# Altium footprint library MAX4932ETD&plus_T.PcbLib: 3 footprints
Each footprint in its own frame and in the unit in brackets; x right, y up, seen from the top. Pads: shape width x height; smd on the part's side, far side on the other; paste and mask are expansions set on the pad; w line width, h text height; cw(c..) or ccw(c..) is an arc to the next point about the centre after c.
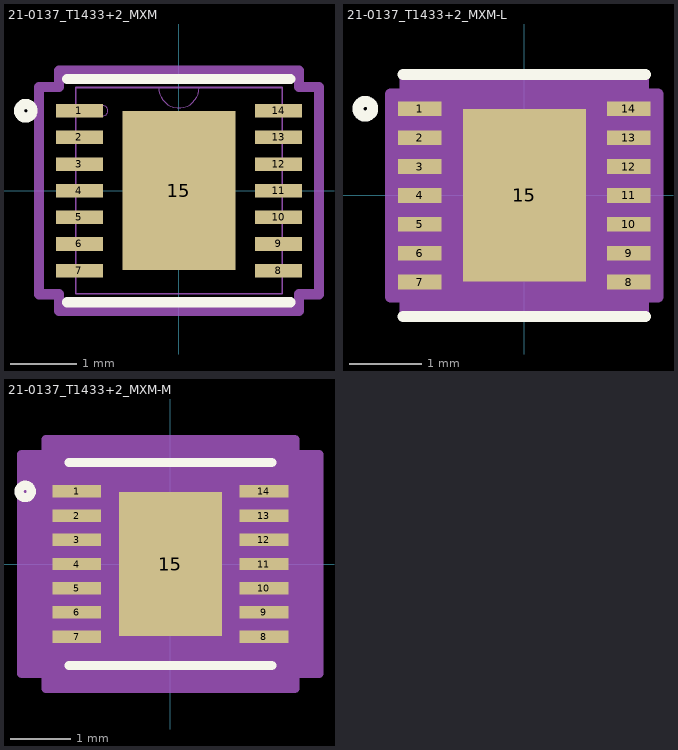
[diagram p0: the footprints below, top view; thin cyan lines are the x and y axes]

## 21-0137_T1433+2_MXM [mm]
pads (15):
  rect 0.706x0.204 smd paste+0 mask+0: 1(-1.496,1.2) 2(-1.496,0.8) 3(-1.496,0.4) 4(-1.496,0) 5(-1.496,-0.4) 6(-1.496,-0.8) 7(-1.496,-1.2) 8(1.496,-1.2) 9(1.496,-0.8) 10(1.496,-0.4) 11(1.496,0) 12(1.496,0.4) 13(1.496,0.8) 14(1.496,1.2)
  rect 1.702x2.388 smd paste+0 mask+0: 15(0,0)
Top Overlay:
  circle w0.152: c-2.3,1.2 r0.102
  lines w0.152: -1.676,-1.676 1.676,-1.676 ; -1.676,1.676 1.676,1.676
Mechanical 13:
  circle w0: c-1.143,1.2 r0.076
  lines w0: -0.305,1.549 ccw(c0,1.549) 0.305,1.549
  lines w0.025: -1.549,-1.549 -1.549,1.549 1.549,1.549 1.549,-1.549 -1.549,-1.549
Mechanical 15:
  lines w0.152: -2.103,-1.556 -1.803,-1.556 -1.803,-1.803 1.803,-1.803 1.803,-1.556 2.103,-1.556 2.103,1.556 1.803,1.556 1.803,1.803 -1.803,1.803 -1.803,1.556 -2.103,1.556 -2.103,-1.556
3D body "21-0137_T1433+2_MXM.step": height 0.81, standoff 0, extent -1.549,-1.549 1.549,1.549

## 21-0137_T1433+2_MXM-L [mm]
pads (15):
  rect 0.606x0.204 smd paste+0 mask+0: 1(-1.446,1.2) 2(-1.446,0.8) 3(-1.446,0.4) 4(-1.446,0) 5(-1.446,-0.4) 6(-1.446,-0.8) 7(-1.446,-1.2) 8(1.446,-1.2) 9(1.446,-0.8) 10(1.446,-0.4) 11(1.446,0) 12(1.446,0.4) 13(1.446,0.8) 14(1.446,1.2)
  rect 1.702x2.388 smd paste+0 mask+0: 15(0,0)
Top Overlay:
  circle w0.152: c-2.2,1.2 r0.102
  lines w0.152: -1.676,-1.676 1.676,-1.676 ; -1.676,1.676 1.676,1.676
Mechanical 13:
  circle w0: c-1.143,1.2 r0.076
  lines w0: -0.305,1.549 ccw(c0,1.549) 0.305,1.549
  lines w0.025: -1.549,-1.549 1.549,-1.549 1.549,1.549 -1.549,1.549 -1.549,-1.549
Mechanical 15:
  region: -1.651,-1.404 -1.851,-1.404 -1.851,1.404 -1.651,1.404 -1.651,1.651 1.651,1.651 1.651,1.404 1.851,1.404 1.851,-1.404 1.651,-1.404 1.651,-1.651 -1.651,-1.651
  lines w0.152: -1.851,-1.404 -1.851,1.404 -1.651,1.404 -1.651,1.651 1.651,1.651 1.651,1.404 1.851,1.404 1.851,-1.404 1.651,-1.404 1.651,-1.651 -1.651,-1.651 -1.651,-1.404 -1.851,-1.404
3D body "21-0137_T1433+2_MXM.step": height 0.81, standoff 0, extent -1.549,-1.549 1.549,1.549

## 21-0137_T1433+2_MXM-M [mm]
pads (15):
  rect 0.806x0.204 smd paste+0 mask+0: 1(-1.546,1.2) 2(-1.546,0.8) 3(-1.546,0.4) 4(-1.546,0) 5(-1.546,-0.4) 6(-1.546,-0.8) 7(-1.546,-1.2) 8(1.546,-1.2) 9(1.546,-0.8) 10(1.546,-0.4) 11(1.546,0) 12(1.546,0.4) 13(1.546,0.8) 14(1.546,1.2)
  rect 1.702x2.388 smd paste+0 mask+0: 15(0,0)
Top Overlay:
  circle w0.152: c-2.4,1.2 r0.102
  lines w0.152: -1.676,-1.676 1.676,-1.676 ; -1.676,1.676 1.676,1.676
Mechanical 13:
  circle w0: c-1.143,1.2 r0.076
  lines w0: -0.305,1.549 ccw(c0,1.549) 0.305,1.549
  lines w0.025: -1.549,-1.549 -1.549,1.549 1.549,1.549 1.549,-1.549 -1.549,-1.549
Mechanical 15:
  region: -2.057,-1.81 -2.457,-1.81 -2.457,1.81 -2.057,1.81 -2.057,2.057 2.057,2.057 2.057,1.81 2.457,1.81 2.457,-1.81 2.057,-1.81 2.057,-2.057 -2.057,-2.057
  lines w0.152: -2.457,-1.81 -2.057,-1.81 -2.057,-2.057 2.057,-2.057 2.057,-1.81 2.457,-1.81 2.457,1.81 2.057,1.81 2.057,2.057 -2.057,2.057 -2.057,1.81 -2.457,1.81 -2.457,-1.81
3D body "21-0137_T1433+2_MXM.step": height 0.81, standoff 0, extent -1.549,-1.549 1.549,1.549